# Altium footprint library EWM521-xxxNWxxSX.PcbLib: 1 footprints
Each footprint in its own frame and in the unit in brackets; x right, y up, seen from the top. Pads: shape width x height; smd on the part's side, far side on the other; paste and mask are expansions set on the pad; w line width, h text height; cw(c..) or ccw(c..) is an arc to the next point about the centre after c.
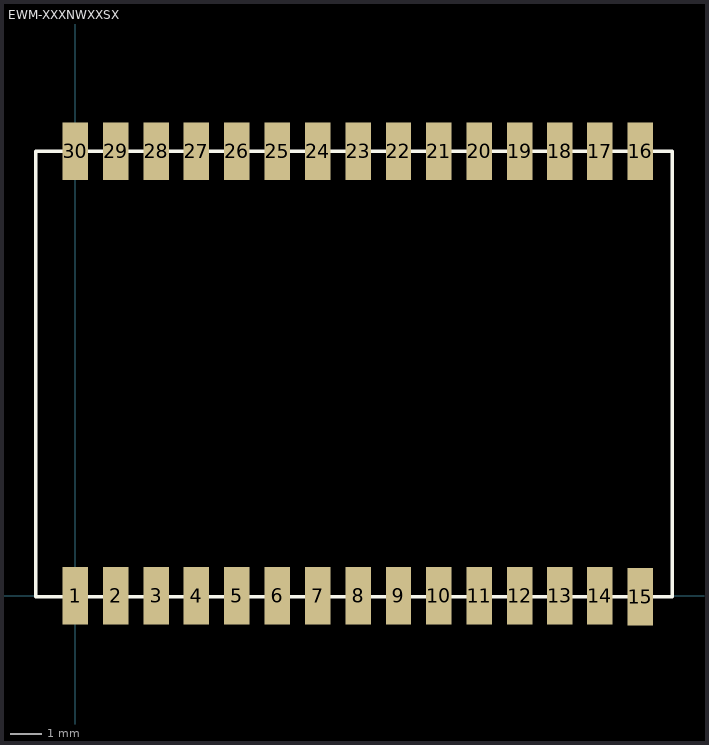
[diagram p0: the footprint, top view; thin cyan lines are the x and y axes]

## EWM-XXXNWXXSX [mm] "20mm*14mm*2.8mm-S"
pads (30):
  rect 0.8x1.8 smd: 1(0,0) 2(1.27,0) 3(2.54,0) 4(3.81,0) 5(5.08,0) 6(6.35,0) 7(7.62,0) 8(8.89,0) 9(10.16,0) 10(11.43,0) 11(12.7,0) 12(13.97,0) 13(15.222,0) 14(16.492,0) 15(17.762,-0.03) 16(17.762,13.97) 17(16.492,13.97) 18(15.222,13.97) 19(13.97,13.97) 20(12.7,13.97) 21(11.43,13.97) 22(10.16,13.97) 23(8.89,13.97) 24(7.62,13.97) 25(6.35,13.97) 26(5.08,13.97) 27(3.81,13.97) 28(2.54,13.97) 29(1.27,13.97) 30(0,13.97)
Top Overlay:
  lines w0.1: -1.238,-0.03 -1.238,13.97 18.762,13.97 18.762,-0.03 -1.238,-0.03